# Altium footprint library ArduinoUno_project.PcbLib: 26 footprints (part 1 of 2)
Each footprint in its own frame and in the unit in brackets; x right, y up, seen from the top. Pads: shape width x height; smd on the part's side, far side on the other; paste and mask are expansions set on the pad; w line width, h text height; cw(c..) or ccw(c..) is an arc to the next point about the centre after c.
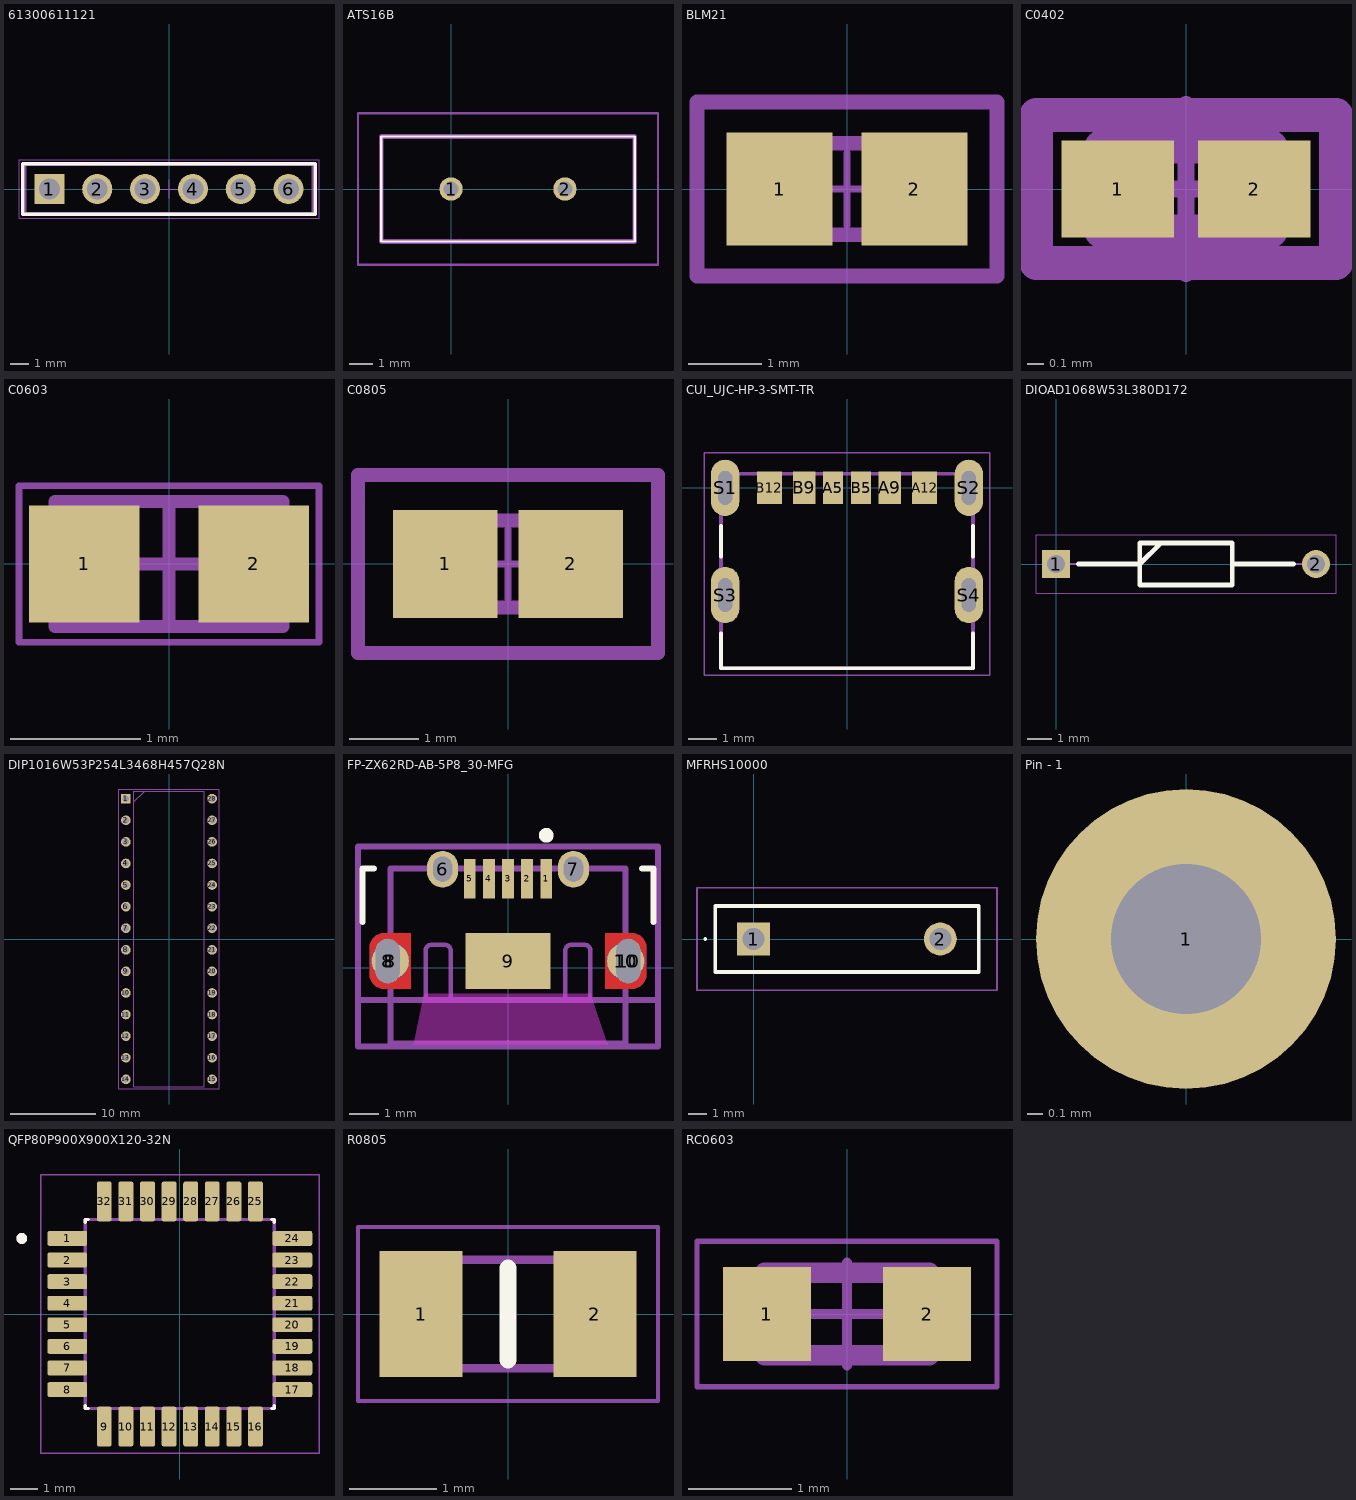
[diagram p0: the footprints below, top view; thin cyan lines are the x and y axes]

## 61300611121 [mm] "Pin Header, pitch 2.54 mm, THT, Vertical, single row, 6p"
height 8.54
pads (6):
  rect 1.6x1.6 hole 1.1: 1(-6.35,0)
  round 1.6 hole 1.1: 2(-3.81,0) 3(-1.27,0) 4(1.27,0) 5(3.81,0) 6(6.35,0)
Top Overlay:
  lines w0.2: -7.77,-1.345 -7.77,1.345 7.77,1.345 7.77,-1.345 -7.77,-1.345
Mechanical 13:
  lines w0.1: -7.62,-1.27 7.62,-1.27 7.62,1.27 -7.62,1.27 -7.62,-1.27
Mechanical 15:
  lines w0.05: -0.5,0 0.5,0 ; 0,-0.5 0,0.5 ; -7.97,-1.545 7.97,-1.545 7.97,1.545 -7.97,1.545 -7.97,-1.545

## ATS16B [mm]
pads (2):
  round 1 hole 0.65: 1(0,0) 2(4.88,0)
Top Overlay:
  lines w0.1: -2.985,-2.25 -2.985,2.25 7.865,2.25 7.865,-2.25 -2.985,-2.25
Mechanical 13:
  lines w0.2: -2.985,-2.25 -2.985,2.25 7.865,2.25 7.865,-2.25 -2.985,-2.25
Mechanical 15:
  lines w0.1: -3.985,-3.25 -3.985,3.25 8.865,3.25 8.865,-3.25 -3.985,-3.25
3D body "ATS16B.stp": height 4.4, standoff -5, extent -2.985,-2.25 7.865,2.25

## BLM21 [mm]
pads (2):
  rect 1.455x1.556 smd paste+0 mask+0: 1(-0.926,0) 2(0.926,0)
Mechanical 5:
  lines w0.2: -2.057,-1.194 -2.057,1.194 2.057,1.194 2.057,-1.194 -2.057,-1.194
Mechanical 13:
  lines w0.2: -1,-0.625 -1,0.625 1,0.625 1,-0.625 -1,-0.625
Mechanical 15:
  lines w0.2: -2.057,-1.194 -2.057,1.194 2.057,1.194 2.057,-1.194 -2.057,-1.194
Mechanical 16:
  lines w0.1: -0.5,0 0.5,0 ; 0,-0.5 0,0.5
3D body "FBead_Murata_BLM21AG102SN1D_eec.STEP": height 0.25, standoff 0, extent -2.153,-1.278 2.153,1.278

## C0402 [mm]
pads (2):
  rect 0.665x0.572 smd paste+0 mask+0: 1(-0.404,0) 2(0.404,0)
Mechanical 5:
  lines w0.2: -0.886,-0.436 -0.886,0.436 0.886,0.436 0.886,-0.436 -0.886,-0.436
Mechanical 13:
  lines w0.2: -0.5,-0.25 -0.5,0.25 0.5,0.25 0.5,-0.25 -0.5,-0.25
Mechanical 15:
  lines w0.2: -0.886,-0.436 -0.886,0.436 0.886,0.436 0.886,-0.436 -0.886,-0.436
Mechanical 16:
  lines w0.1: -0.5,0 0.5,0 ; 0,-0.5 0,0.5
3D body "Cap_Kemet_C0402C562J5RACTU_eec.STEP": height 0.25, standoff 0, extent -0.886,-0.436 0.886,0.436

## C0603 [mm] "Chip Capacitor, 2-Leads, Body 1.60x0.81mm, IPC High Density"
height 0.9
pads (2):
  rect 0.85x0.9 smd: 1(-0.65,0) 2(0.65,0)
Mechanical 13:
  lines w0.1: -0.875,-0.48 0.875,-0.48 0.875,0.48 -0.875,0.48 -0.875,-0.48
Mechanical 15:
  lines w0.05: -1.15,-0.6 1.15,-0.6 1.15,0.6 -1.15,0.6 -1.15,-0.6
  lines w0.1: -0.48,0 0.48,0 ; 0,-0.48 0,0.48
3D body: height 0.9, standoff 0, extent 0.525,-0.48 0.875,0.48
3D body: height 0.9, standoff 0, extent -0.875,-0.48 -0.525,0.48
3D body: height 0.9, standoff 0, extent -0.525,-0.48 0.525,0.48

## C0805 [mm]
pads (2):
  rect 1.505x1.556 smd paste+0 mask+0: 1(-0.901,0) 2(0.901,0)
Mechanical 5:
  lines w0.2: -2.153,-1.278 -2.153,1.278 2.153,1.278 2.153,-1.278 -2.153,-1.278
Mechanical 13:
  lines w0.2: -1,-0.625 -1,0.625 1,0.625 1,-0.625 -1,-0.625
Mechanical 15:
  lines w0.2: -2.153,-1.278 -2.153,1.278 2.153,1.278 2.153,-1.278 -2.153,-1.278
Mechanical 16:
  lines w0.1: -0.5,0 0.5,0 ; 0,-0.5 0,0.5
3D body "Cap_KEMET_C0805C472J3HAC_eec.STEP": height 0.25, standoff 0, extent -2.153,-1.278 2.153,1.278

## CUI_UJC-HP-3-SMT-TR [mm]
pads (10):
  rect 0.7x1.15 smd: A5(-0.5,0.005) B5(0.5,0.005)
  rect 0.8x1.15 smd: A9(1.52,0.005) B9(-1.52,0.005)
  rect 0.9x1.15 smd: A12(2.75,0.005) B12(-2.75,0.005)
  oval 1x2 hole 0.5 slot 1.2 at 90 deg: S1(-4.32,0) S2(4.32,0) S3(-4.32,-3.8) S4(4.32,-3.8)
Top Overlay:
  lines w0.127: -4.47,-5.15 -4.47,-6.4 4.47,-6.4 4.47,-5.15 ; -4.47,-2.45 -4.47,-1.35 ; 4.47,-2.45 4.47,-1.35
Mechanical 13:
  lines w0.127: -4.47,-6.4 4.47,-6.4 4.47,0.5 -4.47,0.5 -4.47,-6.4
Mechanical 15:
  lines w0.05: -5.07,-6.65 5.07,-6.65 5.07,1.25 -5.07,1.25 -5.07,-6.65
3D body "UJC-HP-3-SMT-TR--3DModel-STEP-56544.STEP": height 3.26, standoff -1, extent -4.47,-6.273 4.47,0.627

## DIOAD1068W53L380D172 [mm]
pads (2):
  rect 1.15x1.15 / inner round 1.15 / far side rect 1.15x1.15 hole 0.75: 1(0,0)
  round 1.15 hole 0.75: 2(10.7,0)
Top Overlay:
  lines w0.2: 0.925,0 3.448,0 4.308,0.86 ; 7.252,0 9.775,0 ; 3.448,-0.86 7.252,-0.86 7.252,0.86 3.448,0.86 3.448,-0.86
Mechanical 15:
  lines w0.1: 0,0 3.448,0 4.308,0.86 ; 7.252,0 10.7,0 ; 3.448,-0.86 7.253,-0.86 7.253,0.86 3.448,0.86 3.448,-0.86
Mechanical 20:
  lines w0.05: -0.825,-1.21 11.525,-1.21 11.525,1.21 -0.825,1.21 -0.825,-1.21
3D body "1N914.stp": height 1.9, standoff -1.91, extent -0.274,-0.889 10.942,1.017

## DIP1016W53P254L3468H457Q28N [mm]
pads (28):
  rect 1.133x1.133 / inner round 1.133 / far side rect 1.133x1.133 hole 0.733: 1(-5.08,16.51)
  round 1.133 hole 0.733: 2(-5.08,13.97) 3(-5.08,11.43) 4(-5.08,8.89) 5(-5.08,6.35) 6(-5.08,3.81) 7(-5.08,1.27) 8(-5.08,-1.27) 9(-5.08,-3.81) 10(-5.08,-6.35) 11(-5.08,-8.89) 12(-5.08,-11.43) 13(-5.08,-13.97) 14(-5.08,-16.51) 15(5.08,-16.51) 16(5.08,-13.97) 17(5.08,-11.43) 18(5.08,-8.89) 19(5.08,-6.35) 20(5.08,-3.81) 21(5.08,-1.27) 22(5.08,1.27) 23(5.08,3.81) 24(5.08,6.35) 25(5.08,8.89) 26(5.08,11.43) 27(5.08,13.97) 28(5.08,16.51)
Mechanical 15:
  lines w0.1: -4.128,16.129 -2.858,17.399 ; -4.128,-17.399 4.128,-17.399 4.128,17.399 -4.128,17.399 -4.128,-17.399
Mechanical 20:
  lines w0.05: -5.896,-17.649 5.896,-17.649 5.896,17.649 -5.896,17.649 -5.896,-17.649
3D body "ATMEGA328-PU.stp": height 4.57, standoff -3.5, extent -5.213,-17.272 5.213,17.404

## FP-ZX62RD-AB-5P8_30-MFG [mm]
pads (14):
  rect 0.4x1.35 smd paste+0 mask+0: 1(1.3,3.025) 2(0.65,3.025) 3(0,3.025) 4(-0.65,3.025) 5(-1.3,3.025)
  rrect100% 1.05x1.25 hole 0.85 slot 0.65 at 0 deg paste-1000 mask+0: 6(-2.225,3.35) 7(2.225,3.35)
  rrect100% 0.825x1.5 hole 1.5 slot 0.825 at 0 deg paste-1000 mask+0: 8(-4.088,0.225) 10(4.088,0.225)
  round 1.26 smd paste-1000 mask+0: 8(-4,0.225) 10(4,0.225)
  round 1.26 smd far side paste-1000 mask+0: 8(-4,0.225) 10(4,0.225)
  rect 2.9x1.9 smd paste+0 mask+0: 9(0,0.225)
Top Layer:
  region: -3.3,-0.725 -4.2,-0.725 -4.299,-0.725 -4.483,-0.649 -4.624,-0.508 -4.7,-0.324 -4.7,-0.225 -4.7,0.675 -4.7,0.774 -4.624,0.958 -4.483,1.099 -4.299,1.175 -4.2,1.175 -3.3,1.175
  region: 3.3,1.175 4.2,1.175 4.299,1.175 4.483,1.099 4.624,0.958 4.7,0.774 4.7,0.675 4.7,-0.225 4.7,-0.324 4.624,-0.508 4.483,-0.649 4.299,-0.725 4.2,-0.725 3.3,-0.725
Bottom Layer:
  region: 3.3,1.175 4.2,1.175 4.299,1.175 4.483,1.099 4.624,0.958 4.7,0.774 4.7,0.675 4.7,-0.225 4.7,-0.324 4.624,-0.508 4.483,-0.649 4.299,-0.725 4.2,-0.725 3.3,-0.725
  region: -3.3,-0.725 -4.2,-0.725 -4.299,-0.725 -4.483,-0.649 -4.624,-0.508 -4.7,-0.324 -4.7,-0.225 -4.7,0.675 -4.7,0.774 -4.624,0.958 -4.483,1.099 -4.299,1.175 -4.2,1.175 -3.3,1.175
Top Overlay:
  circle w0.25: c1.3,4.5 r0.125
  lines w0.2: -4.95,1.55 -4.95,3.375 -4.55,3.375 ; 4.55,3.375 4.95,3.375 4.95,1.55
Top Paste:
  rectangle: -5,-0.725 -3.3,1.175
  rectangle: 3.3,-0.725 5,1.175
  rectangle: -4.325,2.675 -2.225,4.025
  rectangle: 2.225,2.675 4.325,4.025
Keep-Out Layer:
  board cut-out: -2.844,-0.889 2.796,-0.889 3.367,-2.6 -3.2,-2.6
Assembly Bottom:
  lines w0.15: -2.8,-1.1 -2.8,0.58 cw(c-2.6,0.58) -2.6,0.78 -2.15,0.78 cw(c-2.15,0.58) -1.95,0.58 -1.95,-1.1 ; 1.95,-1.1 1.95,0.58 cw(c2.15,0.58) 2.15,0.78 2.6,0.78 cw(c2.6,0.58) 2.8,0.58 2.8,-1.1
Mechanical 5:
  lines w0.2: -5.1,-2.675 5.1,-2.675 5.1,4.125 -5.1,4.125 -5.1,-2.675
Mechanical 13:
  lines w0.2: -5.1,-1.1 5.1,-1.1 ; -4,-2.575 4,-2.575 4,3.375 -4,3.375 -4,-2.575
Mechanical 15:
  lines w0.2: -5.1,-2.675 5.1,-2.675 5.1,4.125 -5.1,4.125 -5.1,-2.675
Mechanical 16:
  lines w0.1: -0.5,0 0.5,0 ; 0,-0.5 0,0.5
3D body "Conn_Hirose_ZX62RD-AB-5P8_30_eec.STEP": height 0.25, standoff 0, extent -5.1,-2.675 5.1,4.125

## MFRHS10000 [mm]
pads (2):
  rect 1.8x1.8 hole 1.2: 1(0,0)
  round 1.8 hole 1.2: 2(10.2,0)
Top Overlay:
  lines w0.1: -2.7,0 ccw(c-2.65,0) -2.6,0 ccw(c-2.65,0) -2.7,0
  lines w0.2: -2.1,-1.8 12.3,-1.8 12.3,1.8 -2.1,1.8 -2.1,-1.8
Mechanical 15:
  lines w0.1: -2.1,-1.8 12.3,-1.8 12.3,1.8 -2.1,1.8 -2.1,-1.8
Mechanical 20:
  lines w0.1: -3.1,-2.8 13.3,-2.8 13.3,2.8 -3.1,2.8 -3.1,-2.8
3D body "MF-RHS1000-0.stp": height 28, standoff -5, extent -1.993,-1.822 12.407,1.778

## PCBComponent_1 [mm]

## Pin - 1 [mm] "Test point pad"
pads (1):
  round 2 hole 1: 1(0,0)

## QFP80P900X900X120-32N [mm]
height 1.2
pads (32):
  rrect25% 1.47x0.55 smd: 1(-4.17,2.8) 2(-4.17,2) 3(-4.17,1.2) 4(-4.17,0.4) 5(-4.17,-0.4) 6(-4.17,-1.2) 7(-4.17,-2) 8(-4.17,-2.8) 17(4.17,-2.8) 18(4.17,-2) 19(4.17,-1.2) 20(4.17,-0.4) 21(4.17,0.4) 22(4.17,1.2) 23(4.17,2) 24(4.17,2.8)
  rrect25% 0.55x1.47 smd: 9(-2.8,-4.17) 10(-2,-4.17) 11(-1.2,-4.17) 12(-0.4,-4.17) 13(0.4,-4.17) 14(1.2,-4.17) 15(2,-4.17) 16(2.8,-4.17) 25(2.8,4.17) 26(2,4.17) 27(1.2,4.17) 28(0.4,4.17) 29(-0.4,4.17) 30(-1.2,4.17) 31(-2,4.17) 32(-2.8,4.17)
Top Overlay:
  circle w0.2: c-5.86,2.8 r0.1
  lines w0.127: -3.5,-3.395 -3.5,-3.5 -3.395,-3.5 ; -3.5,3.395 -3.5,3.5 -3.395,3.5 ; 3.395,-3.5 3.5,-3.5 3.5,-3.395 ; 3.395,3.5 3.5,3.5 3.5,3.395
Mechanical 13:
  circle w0.2: c-5.86,2.8 r0.1
  lines w0.127: -3.5,-3.5 -3.5,3.5 3.5,3.5 3.5,-3.5 -3.5,-3.5
Mechanical 15:
  lines w0.05: -5.155,-5.155 -5.155,5.155 5.155,5.155 5.155,-5.155 -5.155,-5.155
3D body "step_temp.STEP": height 1.2, standoff 0, extent -4.5,-4.5 4.5,4.5

## R0805 [mm]
pads (2):
  rect 0.95x1.45 smd: 1(-1,0) 2(1,0)
Top Overlay:
  lines w0.2: 0,-0.525 0,0.525
Mechanical 13:
  lines w0.1: -1.025,-0.625 -1.025,0.625 1.025,0.625 1.025,-0.625 -1.025,-0.625
Mechanical 15:
  lines w0.05: -1.725,-1 -1.725,1 1.725,1 1.725,-1 -1.725,-1
3D body "RCA080522R0FKEA.stp": height 0.5, standoff 0, extent -1.025,-0.625 1.025,0.625

## RC0603 [mm]
pads (2):
  rect 0.859x0.912 smd paste+0 mask+0: 1(-0.777,0) 2(0.777,0)
Mechanical 5:
  lines w0.05: -1.456,-0.706 1.456,-0.706 1.456,0.706 -1.456,0.706 -1.456,-0.706
Mechanical 13:
  lines w0.2: -0.8,-0.4 0.8,-0.4 0.8,0.4 -0.8,0.4 -0.8,-0.4
Mechanical 15:
  lines w0.05: -1.456,-0.706 1.456,-0.706 1.456,0.706 -1.456,0.706 -1.456,-0.706
Mechanical 16:
  lines w0.1: -0.5,0 0.5,0 ; 0,-0.5 0,0.5
3D body "Res_Yageo_RC0603FR-07100KL_eec.STEP": height 0.25, standoff 0, extent -1.456,-0.706 1.456,0.706